# Altium footprint library XL6006.PcbLib: 1 footprints
Each footprint in its own frame and in the unit in brackets; x right, y up, seen from the top. Pads: shape width x height; smd on the part's side, far side on the other; paste and mask are expansions set on the pad; w line width, h text height; cw(c..) or ccw(c..) is an arc to the next point about the centre after c.
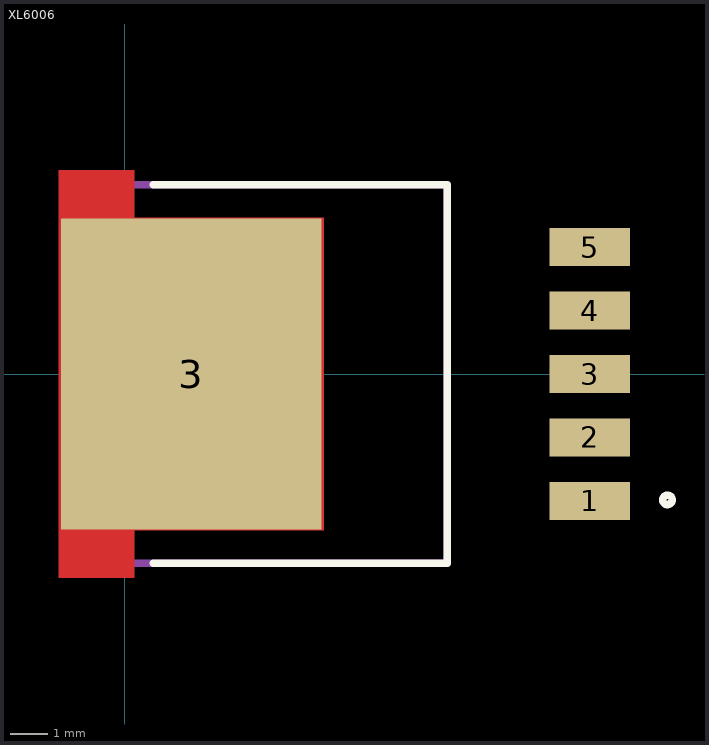
[diagram p0: the footprint, top view; thin cyan lines are the x and y axes]

## XL6006 [mm]
pads (6):
  rect 2.16x1.02 smd: 1(12.461,-3.4) 2(12.461,-1.7) 3(12.461,0) 4(12.461,1.7) 5(12.461,3.4)
  rect 6.99x8.33 smd paste+0 mask+0.102: 3(1.778,0)
Top Layer:
  region: -1.778,-5.461 -1.778,5.461 0.254,5.461 0.254,4.191 5.334,4.191 5.334,-4.191 0.254,-4.191 0.254,-5.461
Top Overlay:
  circle w0.2: c14.551,-3.375 r0.126
  lines w0.2: 0.756,-5.08 8.64,-5.08 8.64,5.08 0.756,5.08
Top Assembly:
  lines w0.2: 0,-5.08 8.64,-5.08 8.64,5.08 0,5.08 0,-5.08
3D body "LM2576HVS-12.stp": height 4.72, standoff 0, extent -1.11,-5.08 13.24,5.08